# Altium footprint library CONV_TVN_5-2415WI.PcbLib: 1 footprints
Each footprint in its own frame and in the unit in brackets; x right, y up, seen from the top. Pads: shape width x height; smd on the part's side, far side on the other; paste and mask are expansions set on the pad; w line width, h text height; cw(c..) or ccw(c..) is an arc to the next point about the centre after c.
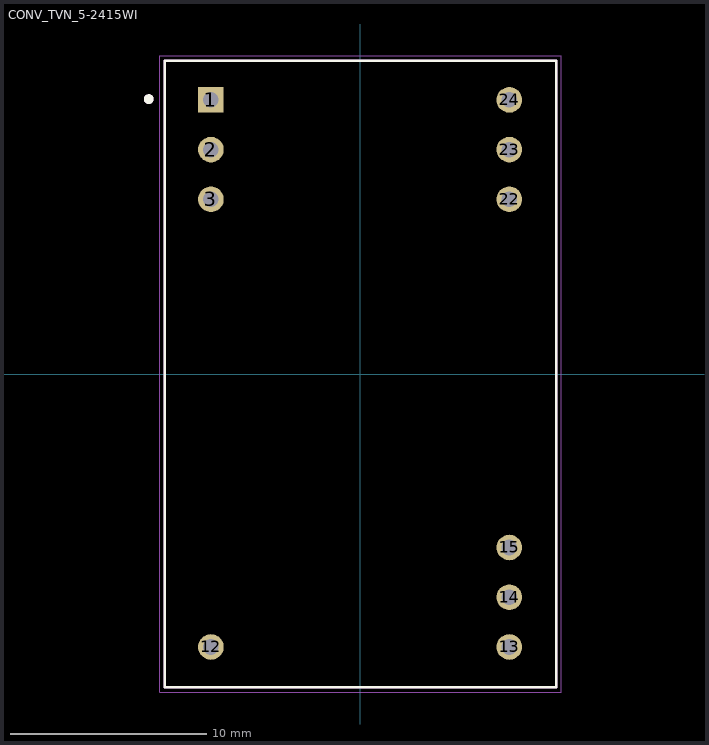
[diagram p0: the footprint, top view; thin cyan lines are the x and y axes]

## CONV_TVN_5-2415WI [mm]
pads (10):
  rect 1.308x1.308 hole 0.8: 1(-7.62,14)
  round 1.308 hole 0.8: 2(-7.62,11.46) 3(-7.62,8.92) 12(-7.62,-13.94) 13(7.62,-13.94) 14(7.62,-11.4) 15(7.62,-8.86) 22(7.62,8.92) 23(7.62,11.46) 24(7.62,14)
Top Overlay:
  circle w0.3: c-10.795,14.038 r0.1
  lines w0.127: -9.98,-16 10.02,-16 10.02,16 -9.98,16 -9.98,-16
Mechanical 13:
  circle w0.3: c-10.795,14.038 r0.1
  lines w0.127: -9.98,-16 10.02,-16 10.02,16 -9.98,16 -9.98,-16
Mechanical 15:
  lines w0.05: -10.23,-16.25 10.27,-16.25 10.27,16.25 -10.23,16.25 -10.23,-16.25
3D body "step_temp.STEP": height 10.7, standoff -4.5, extent -10,-16 10,16